# EAGLE library part USR-ES1W5500 (library LARS_409_MODULES)
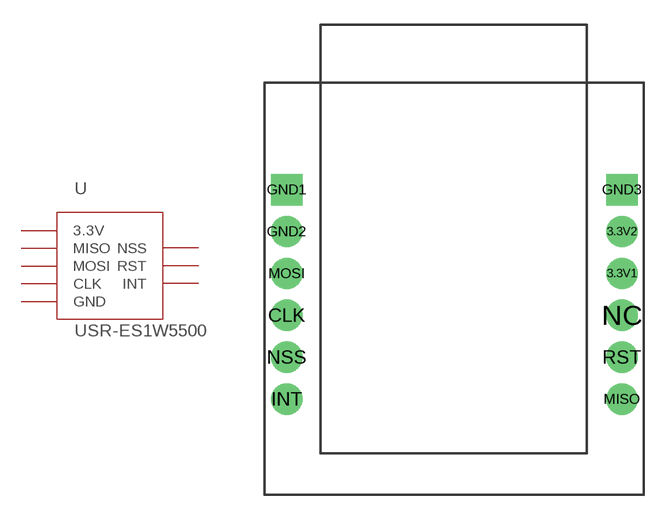
[diagram p6: symbol with the pads of USR-ES1W5500; footprint USR-ES1W5500]

Designator prefix U

## USR-ES1W5500  [USR-ES1W5500]
3.3V1  3.3V
3.3V2  3.3V
CLK  CLK
GND1  GND
GND2  GND
GND3  GND
INT  INT
MISO  MISO
MOSI  MOSI
NSS  NSS
RST  RST

## Footprint USR-ES1W5500 (pad centres in mm)
drill 1.1 pad 1.9: 3.3V1 10.16,0.92; 3.3V2 10.16,3.46; CLK -10.16,-1.62; GND2 -10.16,3.46; INT -10.16,-6.7; MISO 10.16,-6.7; MOSI -10.16,0.92; NC 10.16,-1.62; NSS -10.16,-4.16; RST 10.16,-4.16
drill 1.1 pad 1.9 square: GND1 -10.16,6; GND3 10.16,6